# Altium schematic symbol library Schlib1.SchLib: 2 symbols
Pins are listed as number, name and electrical type; pins without a type are passive.

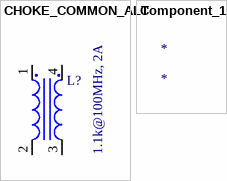
[diagram p0: symbols CHOKE_COMMON_ALT to Component_1]

## CHOKE_COMMON_ALT
designator L?, comment 1.1k@100MHz, 2A
CMC 2A 2LN 1.1K OHM SMD; Part Number: NS00952; Type: Inductor; Value: 1.1k@100MHz, 2A; ComponentLink1Description: Datasheet; ComponentLink1URL: H:\Doc\Murata\EFLC0026.pdf; Supplier 1: Digi-Key; Supplier Part Number 1: 490-12641-1-ND
footprint PLCC440P435X370X235-4L
pins: 1, 2, 3, 4

## Component_1
designator *